# Altium footprint library PAD.PcbLib: 5 footprints
Each footprint in its own frame and in the unit in brackets; x right, y up, seen from the top. Pads: shape width x height; smd on the part's side, far side on the other; paste and mask are expansions set on the pad; w line width, h text height; cw(c..) or ccw(c..) is an arc to the next point about the centre after c.
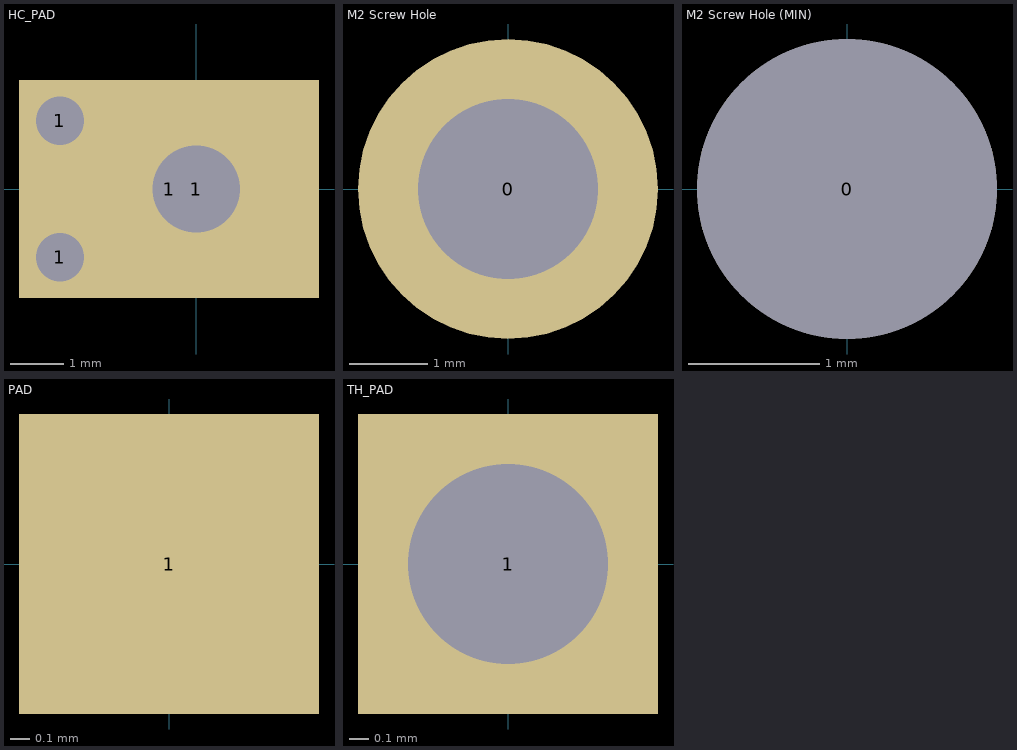
[diagram p0: the footprints below, top view; thin cyan lines are the x and y axes]

## HC_PAD [mil] "High Current Pad"
pads (4):
  round 59.06 hole 35.43: 1(-100,-50) 1(-100,50)
  rect 220x160 smd paste-10000: 1(-20,0)
  round 120 hole 64: 1(0,0)

## M2 Screw Hole [mil] "Mechanical Screw Hole Fits M2, M2.2, 2-56 Screw"
pads (1):
  round 150 hole 90: 0(0,0)
3D body: height 84.25, standoff -375, extent -69,-68.9 68.8,68.9

## M2 Screw Hole (MIN) [mil] "Minimal Mechanical Screw Hole Fits M2, M2.2, 2-56 Screw"
pads (1):
  round 90 hole 90 unplated: 0(0,0)
3D body: height 84.25, standoff -375, extent -69,-68.9 68.8,68.9

## PAD [mil] "60x60mil Test Point"
pads (1):
  rect 60x60 smd: 1(0,0)

## TH_PAD [mil] "Through Hole 60x60mil Test Point"
pads (1):
  rect 60x60 hole 40: 1(0,0)